# EAGLE library part 481RV12172100 (library WS-RPTL)
WS-RPTL THT Illuminated Rotary Push Button Switch PROPERTIES: Diffuser Plate:PC Diffuser Plate Flammability Rating:UL94 HB Knob:PA66 Knob Flammability Rating:UL94 HB Frame Material:PA66 Frame Flammability Rating:UL94 HB Base Material:PA66 Base Flammability Rating:UL94 HB Stationary Board:PA66 Stationary Board Flammability Rating:UL94 HB Stationary Contact Plating:Silver Moveable Contact Push Button Plating:Silver Moveable Contact Rotary Plating:Silver Spring Material:Stainless Steel Terminal Plating:Silver Contact Resistance:50 mΩ RISO:100 MΩ Withstanding Voltage:500 V (AC) Switching Schematic Rotary:1P8T Qty.:77 Material Properties: Cover Material:Stainless Steel Mechanical Properties: Operation Force:250 g Switching Schematic Pushbutton:DPDT Switching Schematic Rotary:1P8T General Information: Operating Temperature:-40 up to +85 °C Packaging Properties: Packaging:ESD Tray <https://www.we-online.com/catalog/media/o41281v209%20Family_WS-RPTL_20x20_Button_Switch.jpg> Details see: https://www.we-online.com/catalog/en/RPTL_20X20_THT_ROTARY_PUSH_BUTTON_SWITCH/ Updated by Yingchun Shan,2020-02-26 2020(C) Wurth Elektronik
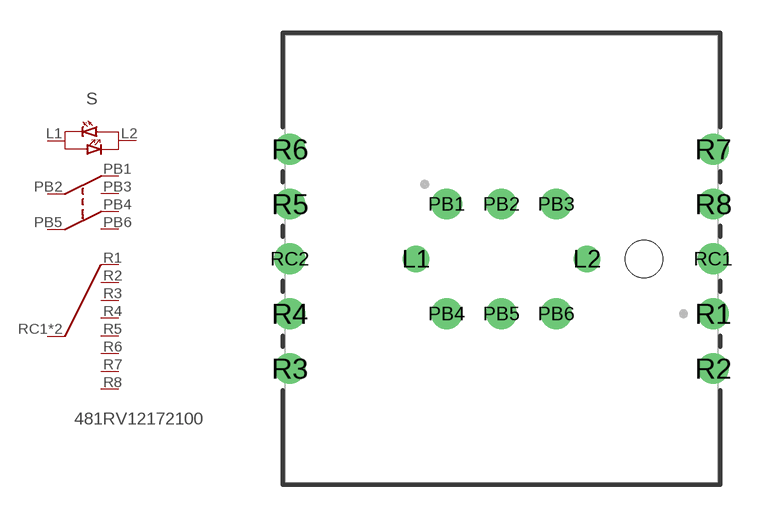
[diagram p0: symbol with the pads of 481RV12172100; footprint 481RV12172100]

Designator prefix S

## 481RV12172100 (DATASHEET-URL: https://www.we-online.com/catalog/datasheet/481RV12172100.pdf; EMITTING-COLOR: Red&Bright Green; H: 14.15mm; PART-NUMBER: 481RV12172100)  [481RV12172100]
L1  L1  pas
L2  L2  pas
PB1  PB1  pas
PB2  PB2  pas
PB3  PB3  pas
PB4  PB4  pas
PB5  PB5  pas
PB6  PB6  pas
R1  R1  pas
R2  R2  pas
R3  R3  pas
R4  R4  pas
R5  R5  pas
R6  R6  pas
R7  R7  pas
R8  R8  pas
RC1  C1  pas
RC2  C1  pas

## Footprint 481RV12172100 (pad centres in mm)
WS-RPTL THT Illuminated Rotary Push Button Switch
drill 0.7: L1 -3.9,0; L2 3.9,0
drill 0.9: PB1 -2.5,2.5; PB2 0,2.5; PB3 2.5,2.5; PB4 -2.5,-2.5; PB5 0,-2.5; PB6 2.5,-2.5; R1 9.65,-2.5; R2 9.65,-5; R3 -9.65,-5; R4 -9.65,-2.5; R5 -9.65,2.5; R6 -9.65,5; R7 9.65,5; R8 9.65,2.5; RC1 9.65,0; RC2 -9.65,0
hole 1.7 at 6.5,0